# Altium footprint library LPON_CAP.PcbLib: 108 footprints (part 5 of 7)
Each footprint in its own frame and in the unit in brackets; x right, y up, seen from the top. Pads: shape width x height; smd on the part's side, far side on the other; paste and mask are expansions set on the pad; w line width, h text height; cw(c..) or ccw(c..) is an arc to the next point about the centre after c.
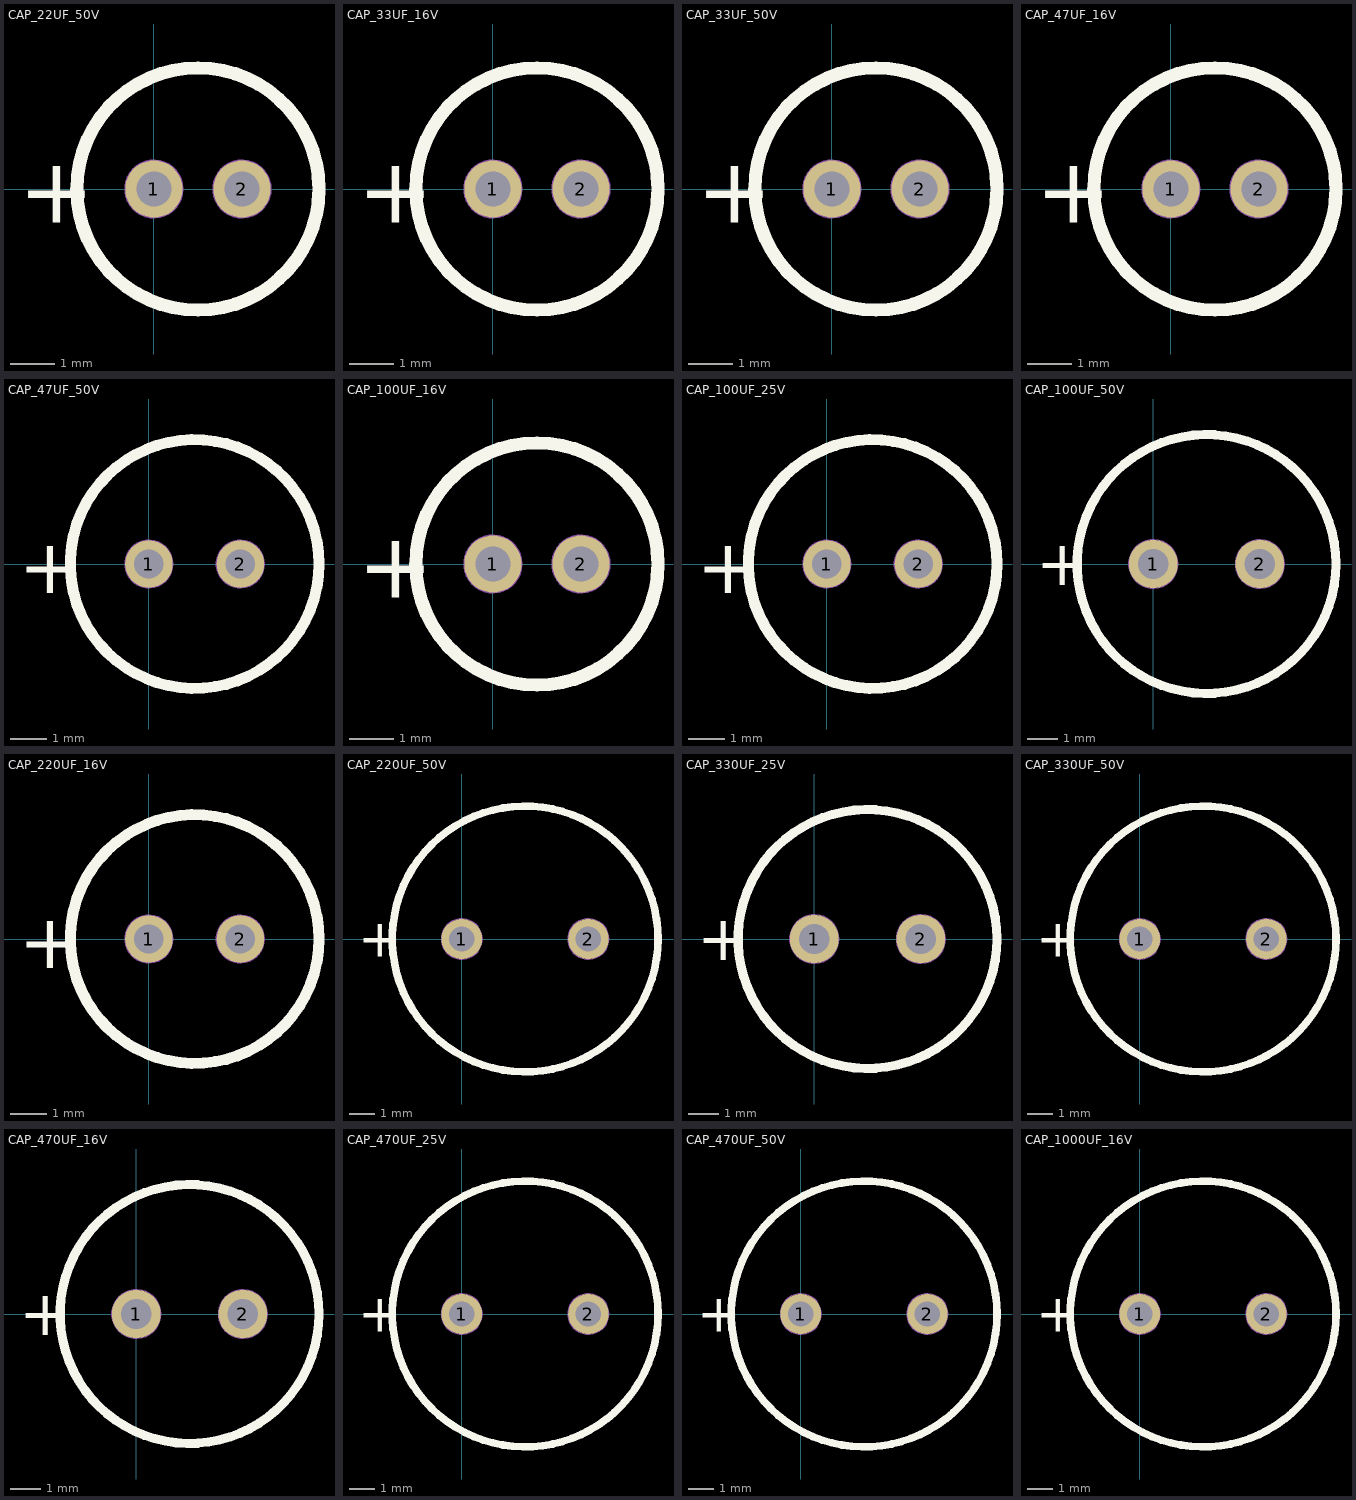
[diagram p4: the footprints below, top view; thin cyan lines are the x and y axes]

## CAP_22UF_50V [mm] "Capacitor, Electrolytic, Radial; Body 5 x 11 mm (Dia.xH typ); Pin Spacing 2 mm (typ)"
height 12
pads (2):
  round 1.3 hole 0.8: 1(0,0) 2(2,0)
Top Overlay:
  circle w0.3: c1,0 r2.75
  text "+" at -3.064,-0.762 h1.5
Mechanical 1:
  circle w0.05: c1,0 r2.75
  circle w0.05: c2,0 r0.65
  circle w0.05: c0,0 r0.65
  text "2" at 1.7,-0.5 h1
  text "1" at -0.2,-0.5 h1
  text "+" at -1.5,-0.5 h1
3D body "Cap Polar 5x11.STEP": height 11.53, standoff -3.27, extent -1.525,-2.525 3.525,2.525

## CAP_33UF_16V [mm] "Capacitor, Electrolytic, Radial; Body 5 x 11 mm (Dia.xH typ); Pin Spacing 2 mm (typ)"
height 12
pads (2):
  round 1.3 hole 0.8: 1(0,0) 2(2,0)
Top Overlay:
  circle w0.3: c1,0 r2.75
  text "+" at -3.064,-0.762 h1.5
Mechanical 1:
  circle w0.05: c0,0 r0.65
  circle w0.05: c2,0 r0.65
  circle w0.05: c1,0 r2.75
  text "+" at -1.5,-0.5 h1
  text "1" at -0.2,-0.5 h1
  text "2" at 1.7,-0.5 h1
3D body "Cap Polar 5x11.STEP": height 11.53, standoff -3.27, extent -1.525,-2.525 3.525,2.525

## CAP_33UF_50V [mm] "Capacitor, Electrolytic, Radial; Body 5 x 11 mm (Dia.xH typ); Pin Spacing 2 mm (typ)"
height 12
pads (2):
  round 1.3 hole 0.8: 1(0,0) 2(2,0)
Top Overlay:
  circle w0.3: c1,0 r2.75
  text "+" at -3.064,-0.762 h1.5
Mechanical 1:
  circle w0.05: c0,0 r0.65
  circle w0.05: c2,0 r0.65
  circle w0.05: c1,0 r2.75
  text "+" at -1.5,-0.5 h1
  text "1" at -0.2,-0.5 h1
  text "2" at 1.7,-0.5 h1
3D body "Cap Polar 5x11.STEP": height 11.53, standoff -3.27, extent -1.525,-2.525 3.525,2.525

## CAP_47UF_16V [mm] "Capacitor, Electrolytic, Radial; Body 5 x 11 mm (Dia.xH typ); Pin Spacing 2 mm (typ)"
height 12
pads (2):
  round 1.3 hole 0.8: 1(0,0) 2(2,0)
Top Overlay:
  circle w0.3: c1,0 r2.75
  text "+" at -3.064,-0.762 h1.5
Mechanical 1:
  circle w0.05: c1,0 r2.75
  circle w0.05: c2,0 r0.65
  circle w0.05: c0,0 r0.65
  text "2" at 1.7,-0.5 h1
  text "1" at -0.2,-0.5 h1
  text "+" at -1.5,-0.5 h1
3D body "Cap Polar 5x11.STEP": height 11.53, standoff -3.27, extent -1.525,-2.525 3.525,2.525

## CAP_47UF_50V [mm] "Capacitor, Electrolytic, Radial; Body 6.3 x 11.2 mm (Dia.xH typ); Pin Spacing 2.5 mm (typ)"
height 12.2
pads (2):
  round 1.3 hole 0.8: 1(0,0) 2(2.5,0)
Top Overlay:
  circle w0.3: c1.25,0 r3.4
  text "+" at -3.55,-0.8 h1.5
Mechanical 1:
  circle w0.05: c1.25,0 r3.4
  circle w0.05: c2.5,0 r0.65
  circle w0.05: c0,0 r0.65
  text "2" at 2.15,-0.5 h1
  text "1" at -0.15,-0.5 h1
  text "+" at -1.65,-0.5 h1
3D body "Cap Polar 6.3x11.STEP": height 11.53, standoff -3.01, extent -1.925,-3.175 4.425,3.175

## CAP_100UF_16V [mm] "Capacitor, Electrolytic, Radial; Body 5 x 11 mm (Dia.xH typ); Pin Spacing 2 mm (typ)"
height 12
pads (2):
  round 1.3 hole 0.8: 1(0,0) 2(2,0)
Top Overlay:
  circle w0.3: c1,0 r2.75
  text "+" at -3.064,-0.762 h1.5
Mechanical 1:
  circle w0.05: c1,0 r2.75
  circle w0.05: c2,0 r0.65
  circle w0.05: c0,0 r0.65
  text "2" at 1.7,-0.5 h1
  text "1" at -0.2,-0.5 h1
  text "+" at -1.5,-0.5 h1
3D body "Cap Polar 5x11.STEP": height 11.53, standoff -3.27, extent -1.525,-2.525 3.525,2.525

## CAP_100UF_25V [mm] "Capacitor, Electrolytic, Radial; Body 6.3 x 11.2 mm (Dia.xH typ); Pin Spacing 2.5 mm (typ)"
height 12.2
pads (2):
  round 1.3 hole 0.8: 1(0,0) 2(2.5,0)
Top Overlay:
  circle w0.3: c1.25,0 r3.4
  text "+" at -3.55,-0.8 h1.5
Mechanical 1:
  circle w0.05: c0,0 r0.65
  circle w0.05: c2.5,0 r0.65
  circle w0.05: c1.25,0 r3.4
  text "+" at -1.65,-0.5 h1
  text "1" at -0.15,-0.5 h1
  text "2" at 2.15,-0.5 h1
3D body "Cap Polar 6.3x11.STEP": height 11.53, standoff -3.01, extent -1.925,-3.175 4.425,3.175

## CAP_100UF_50V [mm] "Capacitor, Electrolytic, Radial; Body 8 x 11.5 mm (Dia.xH typ); Pin Spacing 3.5 mm (typ)"
height 12.5
pads (2):
  round 1.6 hole 1: 1(0,0) 2(3.5,0)
Top Overlay:
  circle w0.3: c1.75,0 r4.25
  text "+" at -3.85,-0.7 h1.5
Mechanical 1:
  circle w0.05: c1.75,0 r4.25
  circle w0.05: c0,0 r0.8
  circle w0.05: c3.5,0 r0.8
  text "+" at -2.05,-0.7 h1.5
  text "1" at -0.25,-0.6 h1.2
  text "2" at 3.15,-0.6 h1.2
3D body "Cap Polar 8x11.STEP": height 12.03, standoff -3.48, extent -2.275,-4.025 5.775,4.025

## CAP_220UF_16V [mm] "Capacitor, Electrolytic, Radial; Body 6.3 x 11.2 mm (Dia.xH typ); Pin Spacing 2.5 mm (typ)"
height 12.2
pads (2):
  round 1.3 hole 0.8: 1(0,0) 2(2.5,0)
Top Overlay:
  circle w0.3: c1.25,0 r3.4
  text "+" at -3.55,-0.8 h1.5
Mechanical 1:
  circle w0.05: c1.25,0 r3.4
  circle w0.05: c2.5,0 r0.65
  circle w0.05: c0,0 r0.65
  text "2" at 2.15,-0.5 h1
  text "1" at -0.15,-0.5 h1
  text "+" at -1.65,-0.5 h1
3D body "Cap Polar 6.3x11.STEP": height 11.53, standoff -3.01, extent -1.925,-3.175 4.425,3.175

## CAP_220UF_50V [mm] "Capacitor, Electrolytic, Radial; Body 10 x 12.5 mm (Dia.xH typ); Pin Spacing 5 mm (typ)"
height 13.5
pads (2):
  round 1.6 hole 1: 1(0,0) 2(5,0)
Top Overlay:
  circle w0.3: c2.5,0 r5.25
  text "+" at -4.1,-0.7 h1.5
Mechanical 1:
  circle w0.05: c2.5,0 r5.25
  circle w0.05: c0,0 r0.8
  circle w0.05: c5,0 r0.8
  text "+" at -2.2,-0.8 h1.5
  text "1" at -0.2,-0.5 h1.2
  text "2" at 4.6,-0.6 h1.2
3D body "Cap Polar 10x12.STEP": height 14.1, standoff -4.72, extent -2.5,-4.994 7.5,4.994

## CAP_330UF_25V [mm] "Capacitor, Electrolytic, Radial; Body 8 x 11.5 mm (Dia.xH typ); Pin Spacing 3.5 mm (typ)"
height 12.5
pads (2):
  round 1.6 hole 1: 1(0,0) 2(3.5,0)
Top Overlay:
  circle w0.3: c1.75,0 r4.25
  text "+" at -3.85,-0.7 h1.5
Mechanical 1:
  circle w0.05: c3.5,0 r0.8
  circle w0.05: c0,0 r0.8
  circle w0.05: c1.75,0 r4.25
  text "2" at 3.15,-0.6 h1.2
  text "1" at -0.25,-0.6 h1.2
  text "+" at -2.05,-0.7 h1.5
3D body "Cap Polar 8x11.STEP": height 12.03, standoff -3.48, extent -2.275,-4.025 5.775,4.025

## CAP_330UF_50V [mm] "Capacitor, Electrolytic, Radial; Body 10 x 16 mm (Dia.xH typ); Pin Spacing 5 mm (typ)"
height 17
pads (2):
  round 1.6 hole 1: 1(0,0) 2(5,0)
Top Overlay:
  circle w0.3: c2.5,0 r5.25
  text "+" at -4.1,-0.7 h1.5
Mechanical 1:
  circle w0.05: c2.5,0 r5.25
  circle w0.05: c0,0 r0.8
  circle w0.05: c5,0 r0.8
  text "2" at 4.7,-0.6 h1.2
  text "1" at -0.2,-0.6 h1.2
  text "+" at -2.2,-0.7 h1.5
3D body "Cap Polar 10x16.STEP": height 16.53, standoff -3.74, extent -2.525,-5.025 7.525,5.025

## CAP_470UF_16V [mm] "Capacitor, Electrolytic, Radial; Body 8 x 11.5 mm (Dia.xH typ); Pin Spacing 3.5 mm (typ)"
height 12.5
pads (2):
  round 1.6 hole 1: 1(0,0) 2(3.5,0)
Top Overlay:
  circle w0.3: c1.75,0 r4.25
  text "+" at -3.85,-0.7 h1.5
Mechanical 1:
  circle w0.05: c1.75,0 r4.25
  circle w0.05: c0,0 r0.8
  circle w0.05: c3.5,0 r0.8
  text "+" at -2.05,-0.7 h1.5
  text "1" at -0.25,-0.6 h1.2
  text "2" at 3.15,-0.6 h1.2
3D body "Cap Polar 8x11.STEP": height 12.03, standoff -3.48, extent -2.275,-4.025 5.775,4.025

## CAP_470UF_25V [mm] "Capacitor, Electrolytic, Radial; Body 10 x 12.5 mm (Dia.xH typ); Pin Spacing 5 mm (typ)"
height 13.5
pads (2):
  round 1.6 hole 1: 1(0,0) 2(5,0)
Top Overlay:
  circle w0.3: c2.5,0 r5.25
  text "+" at -4.1,-0.7 h1.5
Mechanical 1:
  circle w0.05: c5,0 r0.8
  circle w0.05: c0,0 r0.8
  circle w0.05: c2.5,0 r5.25
  text "2" at 4.6,-0.6 h1.2
  text "1" at -0.2,-0.5 h1.2
  text "+" at -2.2,-0.8 h1.5
3D body "Cap Polar 10x12.STEP": height 14.1, standoff -4.72, extent -2.5,-4.994 7.5,4.994

## CAP_470UF_50V [mm] "Capacitor, Electrolytic, Radial; Body 10 x 20 mm (Dia.xH typ); Pin Spacing 5 mm (typ)"
height 22
pads (2):
  round 1.6 hole 1: 1(0,0) 2(5,0)
Top Overlay:
  circle w0.3: c2.5,0 r5.25
  text "+" at -4.1,-0.7 h1.5
Mechanical 1:
  circle w0.05: c5,0 r0.8
  circle w0.05: c0,0 r0.8
  circle w0.05: c2.5,0 r5.25
  text "+" at -2.2,-0.7 h1.5
  text "1" at -0.2,-0.6 h1.2
  text "2" at 4.7,-0.6 h1.2
3D body "Cap Polar 10x16.STEP": height 16.53, standoff -3.74, extent -2.525,-5.025 7.525,5.025

## CAP_1000UF_16V [mm] "Capacitor, Electrolytic, Radial; Body 10 x 16 mm (Dia.xH typ); Pin Spacing 5 mm (typ)"
height 17
pads (2):
  round 1.6 hole 1: 1(0,0) 2(5,0)
Top Overlay:
  circle w0.3: c2.5,0 r5.25
  text "+" at -4.1,-0.7 h1.5
Mechanical 1:
  circle w0.05: c5,0 r0.8
  circle w0.05: c0,0 r0.8
  circle w0.05: c2.5,0 r5.25
  text "+" at -2.2,-0.7 h1.5
  text "1" at -0.2,-0.6 h1.2
  text "2" at 4.7,-0.6 h1.2
3D body "Cap Polar 10x16.STEP": height 16.53, standoff -3.74, extent -2.525,-5.025 7.525,5.025